# Altium footprint library 2020-03-27_06-20-10.PcbLib: 3 footprints
Each footprint in its own frame and in the unit in brackets; x right, y up, seen from the top. Pads: shape width x height; smd on the part's side, far side on the other; paste and mask are expansions set on the pad; w line width, h text height; cw(c..) or ccw(c..) is an arc to the next point about the centre after c.
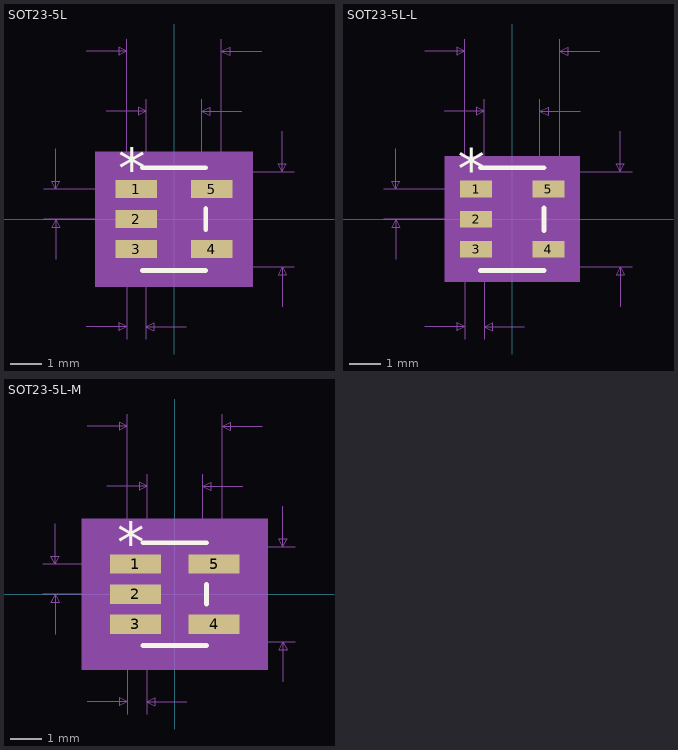
[diagram p0: the footprints below, top view; thin cyan lines are the x and y axes]

## SOT23-5L [mil]
pads (5):
  rect 51.56x22.36 smd paste+0 mask+0: 1(-47,37.4) 2(-47,0) 3(-47,-37.4) 4(47,-37.4) 5(47,37.4)
Top Overlay:
  lines w6: -39.5,-64 39.5,-64 ; -39.5,64 39.5,64 ; 39.5,-13.12 39.5,13.12
  text "*" at -69.5,38.58 h50
Mechanical 5:
  region: 97.78,-84 97.78,84 -97.78,84 -97.78,-84
Mechanical 7:
  lines w1: -162,0 -47,0 ; -162,37.4 -47,37.4 ; -147,-50 -147,0 ; -147,87.4 -147,37.4 ; -109,-134 -59,-134 ; -109,209 -59,209 ; -84.5,134 -34.5,134 ; -59,-149 -59,0 -59,224 ; -35,-149 -35,0 ; -34.5,0 -34.5,149 ; 0,-59 149.5,-59 ; 0,59 149.5,59 ; 15,-134 -35,-134 ; 34.5,0 34.5,149 ; 59,0 59,224 ; 84.5,134 34.5,134 ; 109,209 59,209 ; 134.5,-109 134.5,-59 ; 134.5,109 134.5,59 ; -147,0 -152,-10 -142,-10 -147,0 ; -147,37.4 -152,47.4 -142,47.4 -147,37.4 ; -59,-134 -69,-129 -69,-139 -59,-134 ; -59,209 -69,214 -69,204 -59,209 ; -35,-134 -25,-129 -25,-139 -35,-134 ; -34.5,134 -44.5,139 -44.5,129 -34.5,134 ; 34.5,134 44.5,139 44.5,129 34.5,134 ; 59,209 69,214 69,204 59,209 ; 134.5,-59 129.5,-69 139.5,-69 134.5,-59 ; 134.5,59 129.5,69 139.5,69 134.5,59
  text "Default Padstyle: r131_57" at -312.5,-259 h50
  text "Alt 1 Padstyle: b152_229h76" at -337.5,-379 h50
  text "Alt 2 Padstyle: b229_152h76" at -337.5,-439 h50
  text "0.069in/1.753mm" at -93.75,154 h25
  text "0.118in/2.997mm" at -93.75,229 h25
  text "0.118in/2.997mm" at 154.5,-12.5 h25
  text "0.037in/0.95mm" at -342,6.2 h25
  text "0.024in/0.61mm" at -134.5,-179 h25
Mechanical 13:
  lines w1: -59,-47.4 -59,-27.4 -34.5,-27.4 -34.5,-47.4 -59,-47.4 ; -59,-10 -59,10 -34.5,10 -34.5,-10 -59,-10 ; -59,27.4 -59,47.4 -34.5,47.4 -34.5,27.4 -59,27.4 ; -34.5,-59 34.5,-59 34.5,59 -34.5,59 -34.5,-59 ; 34.5,-47.4 34.5,-27.4 59,-27.4 59,-47.4 34.5,-47.4 ; 34.5,27.4 34.5,47.4 59,47.4 59,27.4 34.5,27.4
  text "*" at -37,18.58 h50
Mechanical 15:
  region: 44.5,-69 -44.5,-69 -44.5,-58.58 -84,-58.58 -84,58.58 -44.5,58.58 -44.5,69 44.5,69 44.5,58.58 84,58.58 84,-58.58 44.5,-58.58
  lines w6: -84,-58.58 -44.5,-58.58 -44.5,-69 44.5,-69 44.5,-58.58 84,-58.58 84,58.58 44.5,58.58 44.5,69 -44.5,69 -44.5,58.58 -84,58.58 -84,-58.58
3D body: height 10, standoff 0, extent 0,0 10,10

## SOT23-5L-L [mm]
pads (5):
  rect 1.01x0.528 smd paste+0 mask+0: 1(-1.144,0.95) 2(-1.144,0) 3(-1.144,-0.95) 4(1.144,-0.95) 5(1.144,0.95)
Top Overlay:
  lines w0.152: -1.003,-1.626 1.003,-1.626 ; -1.003,1.626 1.003,1.626 ; 1.003,-0.353 1.003,0.353
  text "*" at -1.715,0.96 h1.27
Mechanical 5:
  region: 2.131,-1.981 2.131,1.981 -2.131,1.981 -2.131,-1.981
Mechanical 7:
  lines w0.025: -4.065,0 -1.144,0 ; -4.065,0.95 -1.144,0.95 ; -3.684,-1.27 -3.684,0 ; -3.684,2.22 -3.684,0.95 ; -2.769,-3.404 -1.499,-3.404 ; -2.769,5.309 -1.499,5.309 ; -2.146,3.404 -0.876,3.404 ; -1.499,-3.785 -1.499,0 -1.499,5.69 ; -0.889,-3.785 -0.889,0 ; -0.876,0 -0.876,3.785 ; 0,-1.499 3.797,-1.499 ; 0,1.499 3.797,1.499 ; 0.381,-3.404 -0.889,-3.404 ; 0.876,0 0.876,3.785 ; 1.499,0 1.499,5.69 ; 2.146,3.404 0.876,3.404 ; 2.769,5.309 1.499,5.309 ; 3.416,-2.769 3.416,-1.499 ; 3.416,2.769 3.416,1.499 ; -3.684,0 -3.811,-0.254 -3.557,-0.254 -3.684,0 ; -3.684,0.95 -3.811,1.204 -3.557,1.204 -3.684,0.95 ; -1.499,-3.404 -1.753,-3.277 -1.753,-3.531 -1.499,-3.404 ; -1.499,5.309 -1.753,5.436 -1.753,5.182 -1.499,5.309 ; -0.889,-3.404 -0.635,-3.277 -0.635,-3.531 -0.889,-3.404 ; -0.876,3.404 -1.13,3.531 -1.13,3.277 -0.876,3.404 ; 0.876,3.404 1.13,3.531 1.13,3.277 0.876,3.404 ; 1.499,5.309 1.753,5.436 1.753,5.182 1.499,5.309 ; 3.416,-1.499 3.289,-1.753 3.543,-1.753 3.416,-1.499 ; 3.416,1.499 3.289,1.753 3.543,1.753 3.416,1.499
  text "Default Padstyle: r101_53" at -7.938,-6.579 h1.27
  text "Alt 1 Padstyle: b152_229h76" at -8.572,-9.627 h1.27
  text "Alt 2 Padstyle: b229_152h76" at -8.572,-11.151 h1.27
  text "0.069in/1.753mm" at -2.381,3.912 h0.64
  text "0.118in/2.997mm" at -2.381,5.817 h0.64
  text "0.118in/2.997mm" at 3.924,-0.318 h0.64
  text "0.037in/0.95mm" at -8.637,0.158 h0.64
  text "0.024in/0.61mm" at -3.416,-4.547 h0.64
Mechanical 13:
  lines w0.025: -1.499,-1.204 -1.499,-0.696 -0.876,-0.696 -0.876,-1.204 -1.499,-1.204 ; -1.499,-0.254 -1.499,0.254 -0.876,0.254 -0.876,-0.254 -1.499,-0.254 ; -1.499,0.696 -1.499,1.204 -0.876,1.204 -0.876,0.696 -1.499,0.696 ; -0.876,-1.499 0.876,-1.499 0.876,1.499 -0.876,1.499 -0.876,-1.499 ; 0.876,-1.204 0.876,-0.696 1.499,-0.696 1.499,-1.204 0.876,-1.204 ; 0.876,0.696 0.876,1.204 1.499,1.204 1.499,0.696 0.876,0.696
  text "*" at -0.94,0.452 h1.27
Mechanical 15:
  region: 0.978,-1.6 -0.978,-1.6 -0.978,-1.316 -1.753,-1.316 -1.753,1.316 -0.978,1.316 -0.978,1.6 0.978,1.6 0.978,1.316 1.753,1.316 1.753,-1.316 0.978,-1.316
  lines w0.152: -1.753,-1.316 -0.978,-1.316 -0.978,-1.6 0.978,-1.6 0.978,-1.316 1.753,-1.316 1.753,1.316 0.978,1.316 0.978,1.6 -0.978,1.6 -0.978,1.316 -1.753,1.316 -1.753,-1.316
3D body: height 0.25, standoff 0, extent 0,0 0.254,0.254

## SOT23-5L-M [mm]
pads (5):
  rect 1.61x0.608 smd paste+0 mask+0: 1(-1.244,0.95) 2(-1.244,0) 3(-1.244,-0.95) 4(1.244,-0.95) 5(1.244,0.95)
Top Overlay:
  lines w0.152: -1.003,-1.626 1.003,-1.626 ; -1.003,1.626 1.003,1.626 ; 1.003,-0.313 1.003,0.313
  text "*" at -1.815,1 h1.27
Mechanical 5:
  region: 2.938,-2.388 2.938,2.388 -2.938,2.388 -2.938,-2.388
Mechanical 7:
  lines w0.025: -4.165,0 -1.244,0 ; -4.165,0.95 -1.244,0.95 ; -3.784,-1.27 -3.784,0 ; -3.784,2.22 -3.784,0.95 ; -2.769,-3.404 -1.499,-3.404 ; -2.769,5.309 -1.499,5.309 ; -2.146,3.404 -0.876,3.404 ; -1.499,-3.785 -1.499,0 -1.499,5.69 ; -0.889,-3.785 -0.889,0 ; -0.876,0 -0.876,3.785 ; 0,-1.499 3.797,-1.499 ; 0,1.499 3.797,1.499 ; 0.381,-3.404 -0.889,-3.404 ; 0.876,0 0.876,3.785 ; 1.499,0 1.499,5.69 ; 2.146,3.404 0.876,3.404 ; 2.769,5.309 1.499,5.309 ; 3.416,-2.769 3.416,-1.499 ; 3.416,2.769 3.416,1.499 ; -3.784,0 -3.911,-0.254 -3.657,-0.254 -3.784,0 ; -3.784,0.95 -3.911,1.204 -3.657,1.204 -3.784,0.95 ; -1.499,-3.404 -1.753,-3.277 -1.753,-3.531 -1.499,-3.404 ; -1.499,5.309 -1.753,5.436 -1.753,5.182 -1.499,5.309 ; -0.889,-3.404 -0.635,-3.277 -0.635,-3.531 -0.889,-3.404 ; -0.876,3.404 -1.13,3.531 -1.13,3.277 -0.876,3.404 ; 0.876,3.404 1.13,3.531 1.13,3.277 0.876,3.404 ; 1.499,5.309 1.753,5.436 1.753,5.182 1.499,5.309 ; 3.416,-1.499 3.289,-1.753 3.543,-1.753 3.416,-1.499 ; 3.416,1.499 3.289,1.753 3.543,1.753 3.416,1.499
  text "Default Padstyle: r161_61" at -7.938,-6.579 h1.27
  text "Alt 1 Padstyle: b152_229h76" at -8.572,-9.627 h1.27
  text "Alt 2 Padstyle: b229_152h76" at -8.572,-11.151 h1.27
  text "0.069in/1.753mm" at -2.381,3.912 h0.64
  text "0.118in/2.997mm" at -2.381,5.817 h0.64
  text "0.118in/2.997mm" at 3.924,-0.318 h0.64
  text "0.037in/0.95mm" at -8.737,0.158 h0.64
  text "0.024in/0.61mm" at -3.416,-4.547 h0.64
Mechanical 13:
  lines w0.025: -1.499,-1.204 -1.499,-0.696 -0.876,-0.696 -0.876,-1.204 -1.499,-1.204 ; -1.499,-0.254 -1.499,0.254 -0.876,0.254 -0.876,-0.254 -1.499,-0.254 ; -1.499,0.696 -1.499,1.204 -0.876,1.204 -0.876,0.696 -1.499,0.696 ; -0.876,-1.499 0.876,-1.499 0.876,1.499 -0.876,1.499 -0.876,-1.499 ; 0.876,-1.204 0.876,-0.696 1.499,-0.696 1.499,-1.204 0.876,-1.204 ; 0.876,0.696 0.876,1.204 1.499,1.204 1.499,0.696 0.876,0.696
  text "*" at -0.94,0.492 h1.27
Mechanical 15:
  region: 1.384,-2.007 -1.384,-2.007 -1.384,-1.762 -2.769,-1.762 -2.769,1.762 -1.384,1.762 -1.384,2.007 1.384,2.007 1.384,1.762 2.769,1.762 2.769,-1.762 1.384,-1.762
  lines w0.152: -2.769,-1.762 -1.384,-1.762 -1.384,-2.007 1.384,-2.007 1.384,-1.762 2.769,-1.762 2.769,1.762 1.384,1.762 1.384,2.007 -1.384,2.007 -1.384,1.762 -2.769,1.762 -2.769,-1.762
3D body: height 0.25, standoff 0, extent 0,0 0.254,0.254